# EAGLE library part G6K-2F-Y (library misc)
Surface Mounting Relay with the World’s Smallest Mounting Area Datasheet <https://omronfs.omron.com/en_US/ecb/products/pdf/en-g6k.pdf>
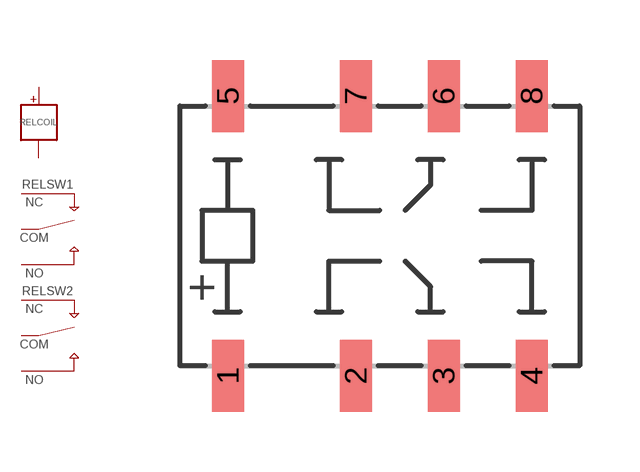
[diagram p103: symbol with the pads of G6K-2F; footprint G6K-2F]

Designator prefix REL; gates COIL=RELAY_COIL SW1=RELAY_SWITCH SW2=RELAY_SWITCH

## G6K-2F-Y (LCSC#: C47190; MANF: OMRON; MANF#: G6K-2F-Y-TR DC5)  [G6K-2F]
1  COIL:1  pas
2  SW1:NC
3  SW1:COM
4  SW1:NO
5  SW2:NO
6  SW2:COM
7  SW2:NC
8  COIL:2  pas

## Footprint G6K-2F (pad centres in mm)
Datasheet <https://omronfs.omron.com/en_US/ecb/products/pdf/en-g6k.pdf> 3D model <https://grabcad.com/library?page=1&time=all_time&sort=recent&query=OMRON%20G6K>
smd 0.8 x 1.8: 1 -3.8,-3.5; 2 -0.6,-3.5; 3 1.6,-3.5; 4 3.8,-3.5; 5 -3.8,3.5; 6 1.6,3.5; 7 -0.6,3.5; 8 3.8,3.5